# Altium schematic symbol library Cap Feed.Schlib: 1 symbol
Pins are listed as number, name and electrical type; pins without a type are passive.

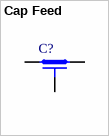
[diagram p0: symbol Cap Feed]

## Cap Feed
designator C?
Feed-Through Capacitor
pins: 1, 2, 3